# EAGLE library part HEADER2MM (library qfm-trx1-24g)
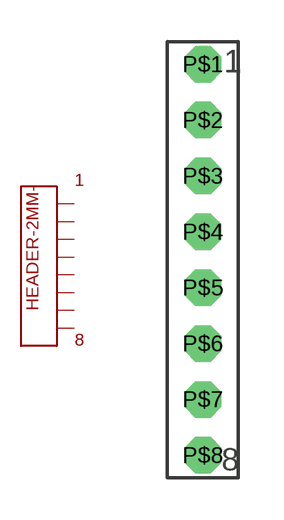
[diagram p2: symbol with the pads of PH-2MM; footprint PH-2MM]

Designator prefix HEADER-2MM-

## HEADER2MM  [PH-2MM]
P$1  P$1  pas
P$2  P$2  pas
P$3  P$3  pas
P$4  P$4  pas
P$5  P$5  pas
P$6  P$6  pas
P$7  P$7  pas
P$8  P$8  pas

## Footprint PH-2MM (pad centres in mm)
drill 0.8 octagon: P$1 0,7; P$2 0,5; P$3 0,3; P$4 0,1; P$5 0,-1; P$6 0,-3; P$7 0,-5; P$8 0,-7